# Altium schematic symbol library Switch.SchLib: 1 symbol
Pins are listed as number, name and electrical type; pins without a type are passive.

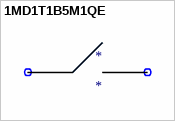
[diagram p0: symbol 1MD1T1B5M1QE]

## 1MD1T1B5M1QE
designator *
pins: 0, 0